# Altium footprint library JMPKG.PcbLib: 337 footprints (part 2 of 22)
Each footprint in its own frame and in the unit in brackets; x right, y up, seen from the top. Pads: shape width x height; smd on the part's side, far side on the other; paste and mask are expansions set on the pad; w line width, h text height; cw(c..) or ccw(c..) is an arc to the next point about the centre after c.
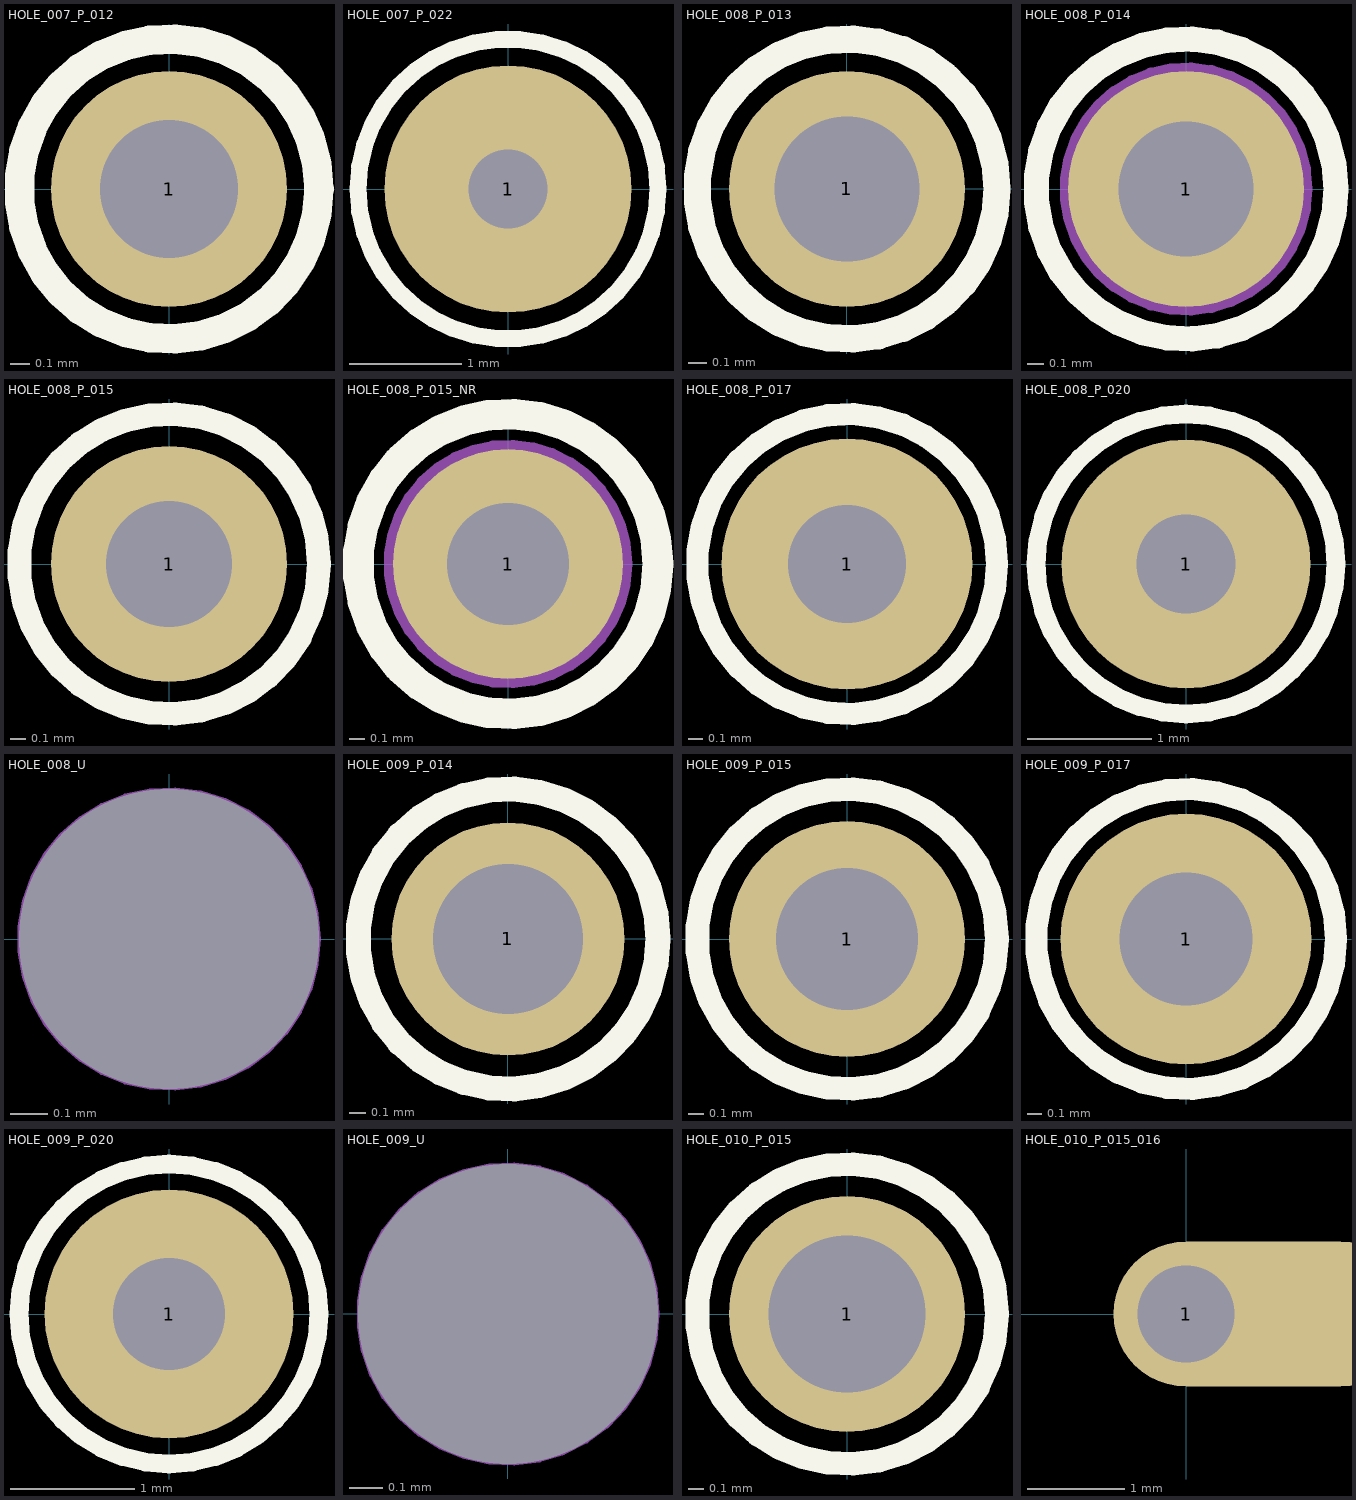
[diagram p1: the footprints below, top view; thin cyan lines are the x and y axes]

## HOLE_007_P_012 [mm]
pads (1):
  round 1.2 hole 0.7 mask+0.05: 1(0,0)
Top Overlay:
  circle w0.15: c0,0 r0.762
Mechanical 15:
  circle w0.1: c0,0 r0.35
Mechanical 16:
  circle w0.1: c0,0 r0.35
Mechanical 20:
  circle w0.1: c0,0 r0.762

## HOLE_007_P_022 [mm]
pads (1):
  round 2.2 hole 0.7 mask+0.05: 1(0,0)
Top Overlay:
  circle w0.15: c0,0 r1.333
Mechanical 15:
  circle w0.01: c0,0 r0.35
Mechanical 16:
  circle w0.01: c0,0 r0.35
Mechanical 20:
  circle w0.01: c0,0 r1.333

## HOLE_008_P_013 [mm]
pads (1):
  round 1.3 hole 0.8 mask+0.05: 1(0,0)
Top Overlay:
  circle w0.15: c0,0 r0.826
Mechanical 15:
  circle w0.01: c0,0 r0.4
Mechanical 16:
  circle w0.01: c0,0 r0.4
Mechanical 20:
  circle w0.01: c0,0 r0.826

## HOLE_008_P_014 [mm]
pads (1):
  round 1.4 hole 0.8 mask+0.05: 1(0,0)
Top Overlay:
  circle w0.15: c0,0 r0.891
Mechanical 15:
  circle w0.1: c0,0 r0.4
Mechanical 16:
  circle w0.1: c0,0 r0.4
Mechanical 20:
  circle w0.1: c0,0 r0.701

## HOLE_008_P_015 [mm]
pads (1):
  round 1.5 hole 0.8 mask+0.05: 1(0,0)
Top Overlay:
  circle w0.15: c0,0 r0.953
Drill Drawing:
  circle w0.01: c0,0 r0.4
Mechanical 20:
  circle w0.01: c0,0 r0.953

## HOLE_008_P_015_NR [mm]
pads (1):
  round 1.5 hole 0.8 mask+0.1: 1(0,0)
Top Overlay:
  circle w0.2: c0,0 r0.98
Mechanical 15:
  circle w0.1: c0,0 r0.4
Mechanical 16:
  circle w0.1: c0,0 r0.4
Mechanical 20:
  circle w0.1: c0,0 r0.762

## HOLE_008_P_017 [mm]
pads (1):
  round 1.7 hole 0.8 mask+0.05: 1(0,0)
Top Overlay:
  circle w0.15: c0,0 r1.016
Mechanical 15:
  circle w0.01: c0,0 r0.4
Mechanical 16:
  circle w0.01: c0,0 r0.4
Mechanical 20:
  circle w0.01: c0,0 r1.016

## HOLE_008_P_020 [mm]
pads (1):
  round 2 hole 0.8 mask+0.05: 1(0,0)
Top Overlay:
  circle w0.15: c0,0 r1.206
Mechanical 15:
  circle w0.1: c0,0 r0.4
Mechanical 16:
  circle w0.1: c0,0 r0.4
Mechanical 20:
  circle w0.1: c0,0 r1.206

## HOLE_008_U [mm]
pads (1):
  round 0 hole 0.8 unplated: 1(0,0)
Mechanical 15:
  circle w0.01: c0,0 r0.4
Mechanical 16:
  circle w0.01: c0,0 r0.4

## HOLE_009_P_014 [mm]
pads (1):
  round 1.4 hole 0.9 mask+0.05: 1(0,0)
Top Overlay:
  circle w0.15: c0,0 r0.9
Mechanical 15:
  circle w0.1: c0,0 r0.45
Mechanical 16:
  circle w0.1: c0,0 r0.45
Mechanical 20:
  circle w0.1: c0,0 r0.9

## HOLE_009_P_015 [mm]
pads (1):
  round 1.5 hole 0.9 mask+0.05: 1(0,0)
Top Overlay:
  circle w0.15: c0,0 r0.953
Drill Drawing:
  circle w0.01: c0,0 r0.45
Mechanical 20:
  circle w0.01: c0,0 r0.953

## HOLE_009_P_017 [mm]
pads (1):
  round 1.7 hole 0.9 mask+0.05: 1(0,0)
Top Overlay:
  circle w0.15: c0,0 r1.016
Mechanical 15:
  circle w0.01: c0,0 r0.45
Mechanical 16:
  circle w0.01: c0,0 r0.45
Mechanical 20:
  circle w0.01: c0,0 r1.016

## HOLE_009_P_020 [mm]
pads (1):
  round 2 hole 0.9 mask+0.05: 1(0,0)
Top Overlay:
  circle w0.15: c0,0 r1.206
Mechanical 15:
  circle w0.1: c0,0 r0.45
Mechanical 16:
  circle w0.1: c0,0 r0.45
Mechanical 20:
  circle w0.1: c0,0 r1.206

## HOLE_009_U [mm]
pads (1):
  round 0 hole 0.9 unplated: 1(0,0)
Mechanical 15:
  circle w0.01: c0,0 r0.45
Mechanical 16:
  circle w0.01: c0,0 r0.45

## HOLE_010_P_015 [mm]
pads (1):
  round 1.5 hole 1 mask+0.05: 1(0,0)
Top Overlay:
  circle w0.15: c0,0 r0.953
Mechanical 15:
  circle w0.01: c0,0 r0.5
Mechanical 16:
  circle w0.01: c0,0 r0.5
Mechanical 20:
  circle w0.01: c0,0 r0.953

## HOLE_010_P_015_016 [mm]
pads (1):
  oval 3.1x1.5 hole 1 copper offset 0.8,0 mask+0.1: 1(0,0)
Mechanical 15:
  circle w0.1: c0,0 r0.5
Mechanical 16:
  circle w0.1: c0,0 r0.5